# EAGLE library part SWITCH-MAX4599 (library TEABOX-LIB)
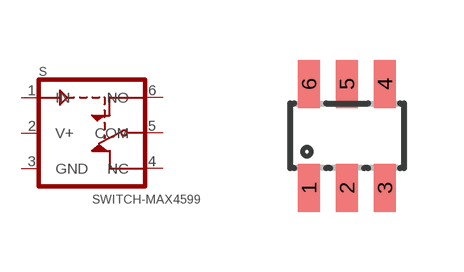
[diagram p14: symbol with the pads of SOT23-6; footprint SOT23-6]

Designator prefix S

## SWITCH-MAX4599  [SOT23-6]
1  IN
2  V+  pwr
3  GND  sup
4  NC
5  COM
6  NO

## Footprint SOT23-6 (pad centres in mm)
Small Outline Transistor
smd 0.55 x 1.2: 1 -0.95,-1.3; 2 0,-1.3; 3 0.95,-1.3; 4 0.95,1.3; 5 0,1.3; 6 -0.95,1.3